# Altium schematic symbol library PAM8403.SchLib: 1 symbol
Pins are listed as number, name and electrical type; pins without a type are passive.

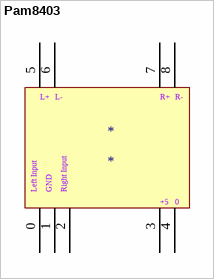
[diagram p0: symbol Pam8403]

## Pam8403
designator *
footprint PAM8403
pins: 0, 1, 2, 3, 4, 5, 6, 7, 8
text: L+; L-; R+; R-; Left Input; GND; Right Input; +5